# EAGLE library part SBH11-PBPC-D05-ST-BK (library SBH11-PBPC-D05-ST-BK)
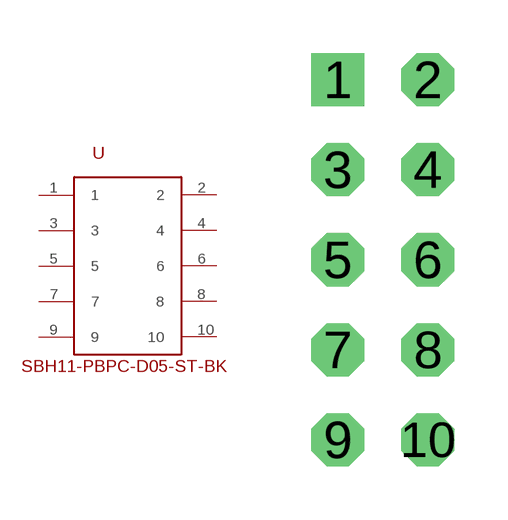
[diagram p0: symbol with the pads of SBH11-PBPC-D05-ST-BK; footprint SBH11-PBPC-D05-ST-BK]

Designator prefix -

## SBH11-PBPC-D05-ST-BK  [SBH11-PBPC-D05-ST-BK]
1  1
2  2
3  3
4  4
5  5
6  6
7  7
8  8
9  9
10  10

## Footprint SBH11-PBPC-D05-ST-BK (pad centres in mm)
drill 0.991 square: 1 0,0
drill 0.991 octagon: 2 2.54,0; 3 0,-2.54; 4 2.54,-2.54; 5 0,-5.08; 6 2.54,-5.08; 7 0,-7.62; 8 2.54,-7.62; 9 0,-10.16; 10 2.54,-10.16